# Altium footprint library DLF162500LT-5028A1.PCBLIB: 1 footprints
Each footprint in its own frame and in the unit in brackets; x right, y up, seen from the top. Pads: shape width x height; smd on the part's side, far side on the other; paste and mask are expansions set on the pad; w line width, h text height; cw(c..) or ccw(c..) is an arc to the next point about the centre after c.
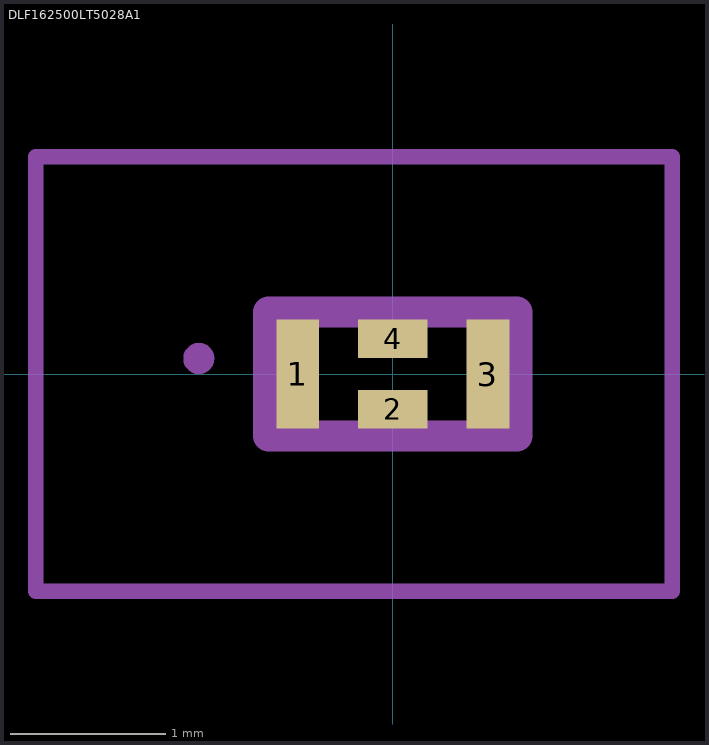
[diagram p0: the footprint, top view; thin cyan lines are the x and y axes]

## DLF162500LT5028A1 [mm]
pads (4):
  rect 0.275x0.7 smd: 1(-0.612,0) 3(0.613,0)
  rect 0.45x0.245 smd: 2(0,-0.227) 4(0,0.227)
tDocu:
  lines w0.1: -2.3,-1.4 1.8,-1.4 1.8,1.4 -2.3,1.4 -2.3,-1.4
  lines w0.2: -0.8,-0.4 0.8,-0.4 0.8,0.4 -0.8,0.4 -0.8,-0.4
tPlace:
  lines w0.1: -1.3,0.1 -1.3,0.1 ; -1.3,0.1 ccw(c-1.25,0.1) -1.2,0.1 ; -1.3,0.1 cw(c-1.25,0.1) -1.2,0.1 ; -1.2,0.1 -1.2,0.1